# EAGLE library part LTC6990CDCBTRMPBF (library LTC6990)
Check availability <https://pricing.snapeda.com/parts/LTC6990CDCB%23TRMPBF/Analog%20Devices/view-part?ref=eda>
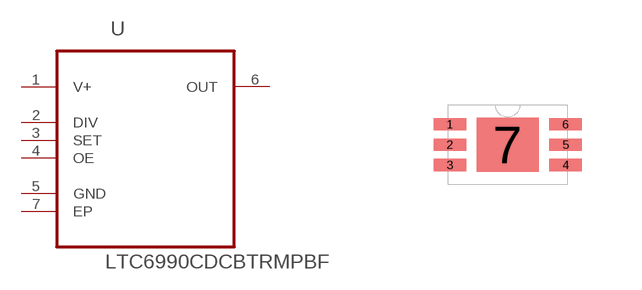
[diagram p0: symbol with the pads of DFN200X300X80-7N; footprint DFN200X300X80-7N]

Designator prefix U

## LTC6990CDCBTRMPBF (Availability: In Stock; Check_prices: https://www.snapeda.com/parts/LTC6990CDCB%23TRMPBF/Analog+Devices/view-part/?ref=eda; Description: OSC, VCO, TIMERBLOX, 6DFN; Supply Voltage:2.25V to 5.5V; Operating Temperature Range:0°C to +70°C; No. of Pins:6; SVHC:No SVHC (18-Jun-2012); Package / Case:DFN; Resonator Case:SMD; MF: Analog Devices; MP: LTC6990CDCB#TRMPBF; Package: DFN -6 Analog Devices; Price: None; SnapEDA_Link: https://www.snapeda.com/parts/LTC6990CDCB%23TRMPBF/Analog+Devices/view-part/?ref=snap)  [DFN200X300X80-7N]
1  V+  pwr
2  DIV  in
3  SET  in
4  OE  in
5  GND  pas
6  OUT  out
7  EP  pas

## Footprint DFN200X300X80-7N (pad centres in mm)
smd 0.813 x 0.305: 1 -1.448,0.508; 2 -1.448,0; 3 -1.448,-0.508; 4 1.448,-0.508; 5 1.448,0; 6 1.448,0.508
smd 1.549 x 1.346: 7 0,0